# Altium schematic symbol library NUCLEO-G431KB.SchLib: 1 symbol
Pins are listed as number, name and electrical type; pins without a type are passive.

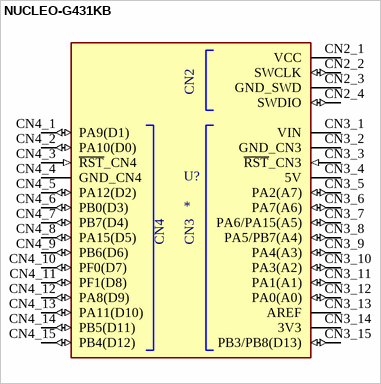
[diagram p0: symbol NUCLEO-G431KB]

## NUCLEO-G431KB
designator U?
MP: NUCLEO-G431KB; Package: None; Price: None; Value: *; Availability: Unavailable
footprint MODULE_NUCLEO-G431KB
pins: CN2_1 VCC (power), CN2_2 SWCLK (io), CN2_3 GND_SWD (power), CN2_4 SWDIO (io), CN3_1 VIN (power), CN3_2 GND_CN3 (power), CN3_3 ~{RST}_CN3 (in), CN3_4 5V (power), CN3_5 PA2(A7) (io), CN3_6 PA7(A6) (io), CN3_7 PA6/PA15(A5) (io), CN3_8 PA5/PB7(A4) (io), CN3_9 PA4(A3) (io), CN3_10 PA3(A2) (io), CN3_11 PA1(A1) (io), CN3_12 PA0(A0) (io), CN3_13 AREF (power), CN3_14 3V3 (power), CN3_15 PB3/PB8(D13) (io), CN4_1 PA9(D1) (io), CN4_2 PA10(D0) (io), CN4_3 ~{RST}_CN4 (in), CN4_4 GND_CN4 (power), CN4_5 PA12(D2) (io), CN4_6 PB0(D3) (io), CN4_7 PB7(D4) (io), CN4_8 PA15(D5) (io), CN4_9 PB6(D6) (io), CN4_10 PF0(D7) (io), CN4_11 PF1(D8) (io), CN4_12 PA8(D9) (io), CN4_13 PA11(D10) (io), CN4_14 PB5(D11) (io), CN4_15 PB4(D12) (io)
text: CN2; CN4; CN3